# Altium schematic symbol library Schlib-ORES.SchLib: 44 symbols
Pins are listed as number, name and electrical type; pins without a type are passive.

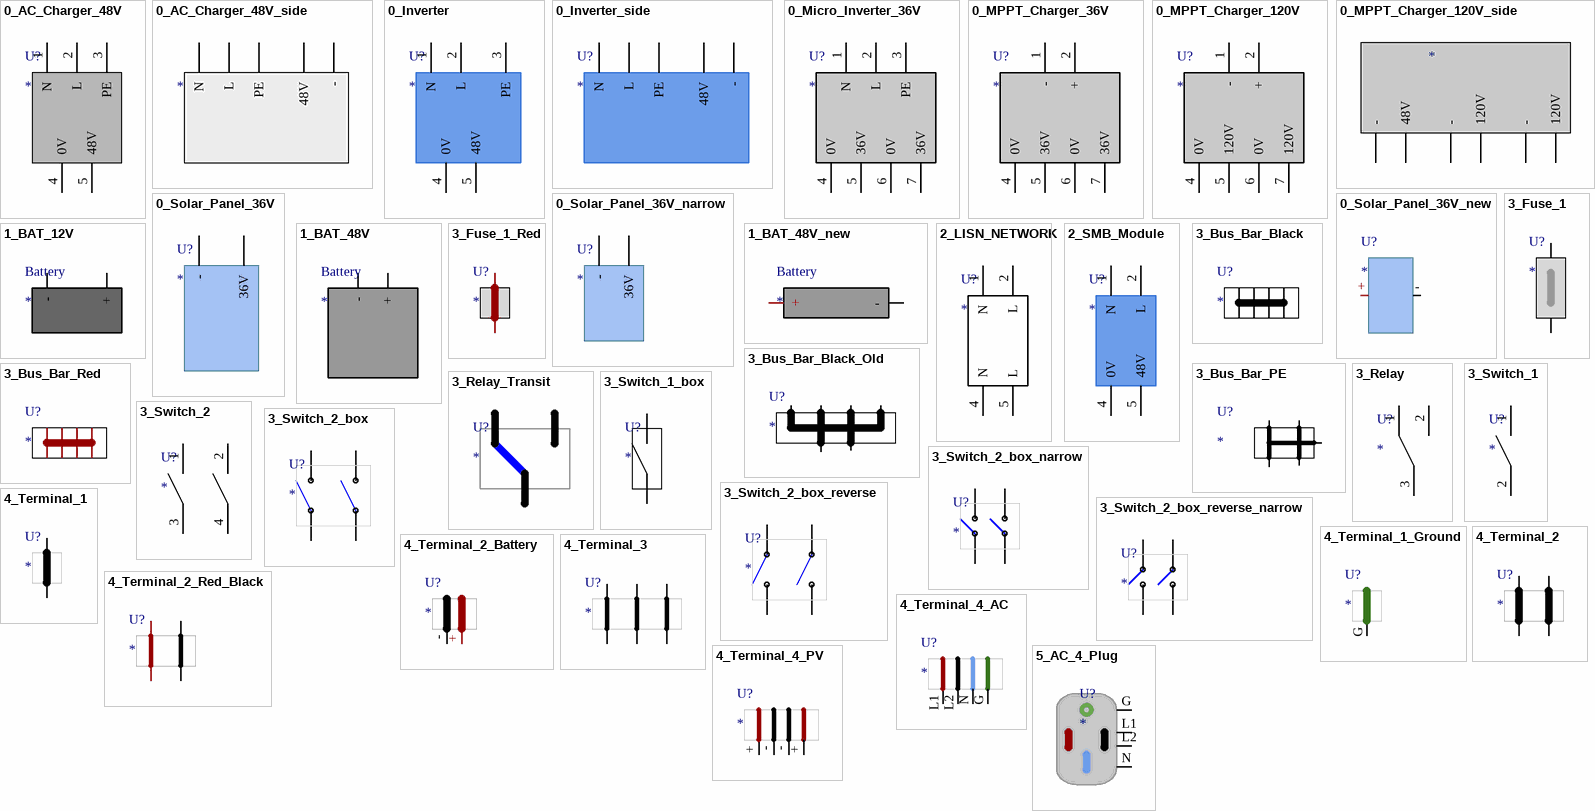
[diagram p0: symbols 0_AC_Charger_48V to 5_AC_4_Plug]

## 0_AC_Charger_48V
designator U?
pins: 1 N, 2 L, 3 PE, 4 0V, 5 48V

## 0_AC_Charger_48V_side
designator U?
pins: 1 N, 2 L, 3 PE, 4 -, 5 48V

## 0_Inverter
designator U?
pins: 1 N, 2 L, 3 PE, 4 0V, 5 48V

## 0_Inverter_side
designator U?
pins: 1 N, 2 L, 3 PE, 4 -, 5 48V

## 0_Micro_Inverter_36V
designator U?
pins: 1 N, 2 L, 3 PE, 4 0V, 5 36V, 6 0V, 7 36V

## 0_MPPT_Charger_36V
designator U?
pins: 1 -, 2 +, 4 0V, 5 36V, 6 0V, 7 36V

## 0_MPPT_Charger_120V
designator U?
pins: 1 -, 2 +, 4 0V, 5 120V, 6 0V, 7 120V

## 0_MPPT_Charger_120V_side
designator U?
pins: 1 -, 2 48V, 4 -, 5 120V, 6 -, 7 120V

## 0_Solar_Panel_36V
designator U?
pins: 1 -, 2 36V

## 0_Solar_Panel_36V_narrow
designator U?
pins: 1 -, 2 36V

## 0_Solar_Panel_36V_new
designator U?
pins: +, -

## 1_BAT_12V
designator Battery
pins: 1 -, 2 +

## 1_BAT_48V
designator Battery
pins: 1 -, 2 +

## 1_BAT_48V_new
designator Battery
pins: 1 -, 2 +

## 2_LISN_NETWORK
designator U?
pins: 1 N, 2 L, 4 N, 5 L

## 2_SMB_Module
designator U?
pins: 1 N, 2 L, 4 0V, 5 48V

## 3_Bus_Bar_Black
designator U?
pins: 1, 3, 4 (power), 5, 6, 6, 6, 6

## 3_Bus_Bar_Black_Old
designator U?
pins: 1, 2, 3, 4, 5, 6

## 3_Bus_Bar_PE
designator U?
pins: 1, 2, 4, 5, 6

## 3_Bus_Bar_Red
designator U?
pins: 1, 3, 4 (power), 5, 6, 6, 6, 6

## 3_Fuse_1
designator U?
pins: 1, 2

## 3_Fuse_1_Red
designator U?
pins: 1, 2

## 3_Relay
designator U?
pins: 1 (power), 2 (power), 3 (power)

## 3_Relay_Transit
designator U?
pins: 1 (power), 2 (power), 3 (power)

## 3_Switch_1
designator U?
pins: 1 (power), 2 (power)

## 3_Switch_1_box
designator U?
pins: 1 (power), 2 (power)

## 3_Switch_2
designator U?
pins: 1 (power), 2 (power), 3 (power), 4 (power)

## 3_Switch_2_box
designator U?
pins: 1 (power), 2 (power), 3 (power), 4 (power)

## 3_Switch_2_box_narrow
designator U?
pins: 1 (power), 2 (power), 3 (power), 4 (power)

## 3_Switch_2_box_reverse
designator U?
pins: 1 (power), 2 (power), 3 (power), 4 (power)

## 3_Switch_2_box_reverse_narrow
designator U?
pins: 1 (power), 2 (power), 3 (power), 4 (power)

## 4_Terminal_1
designator U?
pins: 1, 2

## 4_Terminal_1_Ground
designator U?
pins: G

## 4_Terminal_2
designator U?
pins: 1, 1, 2, 2

## 4_Terminal_2_Battery
designator U?
pins: +, -

## 4_Terminal_2_Red_Black
designator U?
pins: 1, 1, 2, 2

## 4_Terminal_3
designator U?
pins: 1, 1, 1, 2, 2, 2

## 4_Terminal_4_AC
designator U?
pins: G, L1, L2, N

## 4_Terminal_4_PV
designator U?
pins: +, +, -, -

## 5_AC_4_Plug
designator U?
pins: G, L1, L2, N

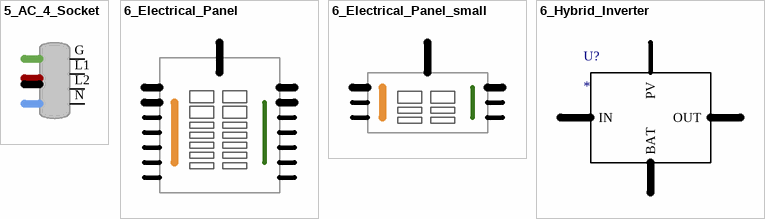
[diagram p1: symbols 5_AC_4_Socket to 6_Hybrid_Inverter]

## 5_AC_4_Socket
designator U?  (value not drawn)
pins: G, L1, L2, N

## 6_Electrical_Panel
designator U?  (value not drawn)
pins: 1 (power), 2 (power), 2 (power), 2 (power), 2 (power), 2 (power), 2 (power), 2 (power), 2 (power), 2 (power), 2 (power), 2 (power), 2 (power), 2 (power), 2 (power)

## 6_Electrical_Panel_small
designator U?  (value not drawn)
pins: 1 (power), 2 (power), 2 (power), 2 (power), 2 (power), 2 (power), 2 (power)

## 6_Hybrid_Inverter
designator U?
pins: 1 PV, 2 IN, 4 BAT, 5 OUT